# Altium footprint library Headers.PcbLib: 34 footprints (part 2 of 3)
Each footprint in its own frame and in the unit in brackets; x right, y up, seen from the top. Pads: shape width x height; smd on the part's side, far side on the other; paste and mask are expansions set on the pad; w line width, h text height; cw(c..) or ccw(c..) is an arc to the next point about the centre after c.
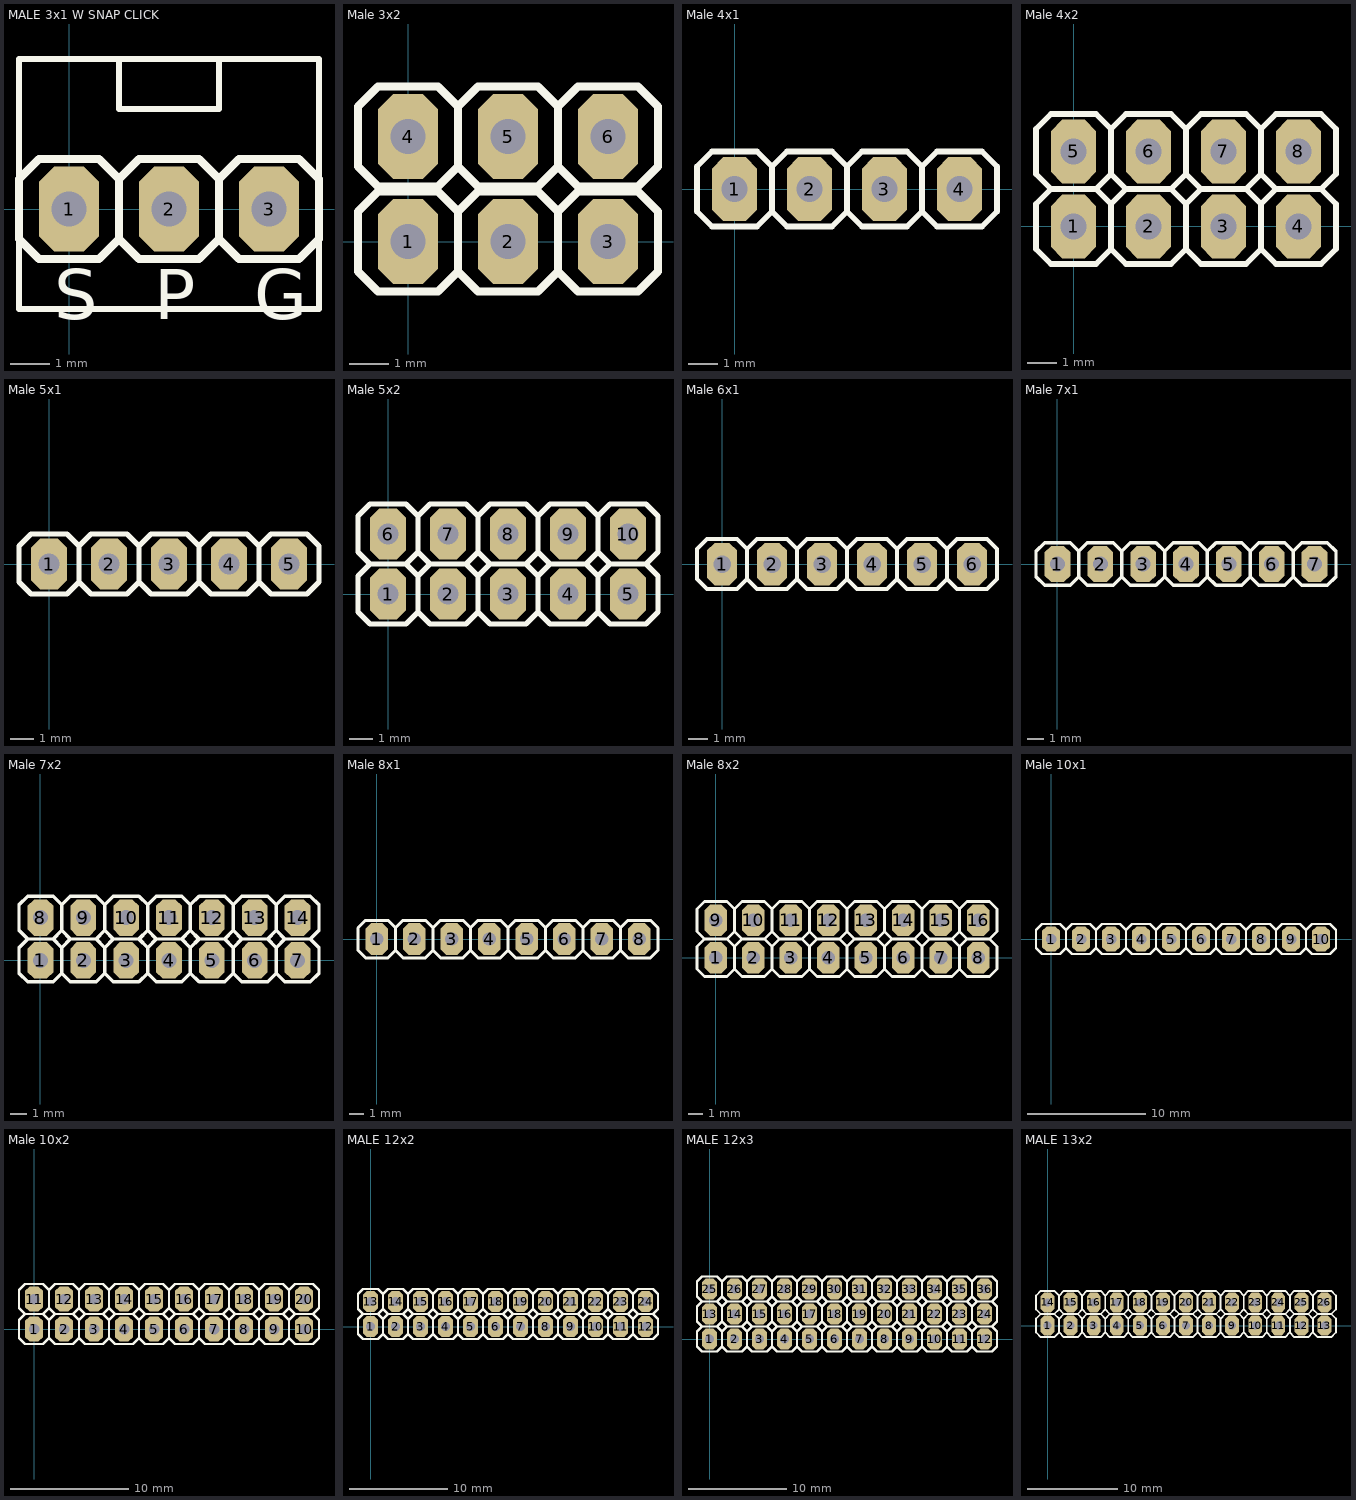
[diagram p1: the footprints below, top view; thin cyan lines are the x and y axes]

## MALE 3x1 W SNAP CLICK [mil]
pads (3):
  oct 60x85 hole 35: 1(0,0) 2(100,0) 3(200,0)
Top Overlay:
  lines w6: 50,150 50,100 150,100 150,150 ; -50,-100 250,-100 250,150 -50,150 -50,-100
  lines w8: -30,50 30,50 ; -30,50 -50,30 -50,-30 -30,-50 30,-50 50,-30 ; -30,50 30,50 ; 30,50 50,30 ; 50,-30 50,30 ; 50,-30 50,30 ; 50,-30 50,30 ; 50,-30 70,-50 130,-50 150,-30 ; 50,30 70,50 ; 70,50 130,50 ; 70,50 130,50 ; 130,50 150,30 ; 150,-30 150,30 ; 150,-30 150,30 ; 150,-30 150,30 ; 150,-30 170,-50 230,-50 250,-30 ; 150,30 170,50 ; 170,50 230,50 ; 170,50 230,50 ; 230,50 250,30 ; 250,-30 250,30 ; 250,-30 250,30
  text "S" at -15,-110 h50
  text "P" at 85,-110 h50
  text "G" at 185,-110 h50
3D body: height 460, standoff -120, extent -10,-10 10,10
3D body: height 100, standoff 0, extent -50.02,-50.02 50.02,50.02
3D body: height 460, standoff -120, extent 90,-10 110,10
3D body: height 100, standoff 0, extent 49.98,-50.02 150.02,50.02
3D body: height 460, standoff -120, extent 190,-10 210,10
3D body: height 100, standoff 0, extent 149.98,-50.02 250.02,50.02

## Male 3x2 [mil]
pads (6):
  oct 60x85 hole 35: 1(0,0) 2(100,0) 3(200,0) 4(0,105) 5(100,105) 6(200,105)
Top Overlay:
  lines w8: -30,50 30,50 ; -30,50 -50,30 -50,-30 -30,-50 30,-50 50,-30 ; -30,50 30,50 ; -30,155 30,155 ; -30,155 -50,135 -50,75 -30,55 30,55 50,75 ; -30,155 30,155 ; 30,50 50,30 ; 30,155 50,135 ; 50,-30 50,30 ; 50,-30 50,30 ; 50,-30 50,30 ; 50,-30 70,-50 130,-50 150,-30 ; 50,30 70,50 ; 50,75 50,135 ; 50,75 50,135 ; 50,75 50,135 ; 50,75 70,55 130,55 150,75 ; 50,135 70,155 ; 70,50 130,50 ; 70,50 130,50 ; 70,155 130,155 ; 70,155 130,155 ; 130,50 150,30 ; 130,155 150,135 ; 150,-30 150,30 ; 150,-30 150,30 ; 150,-30 150,30 ; 150,-30 170,-50 230,-50 250,-30 ; 150,30 170,50 ; 150,75 150,135 ; 150,75 150,135 ; 150,75 150,135 ; 150,75 170,55 230,55 250,75 ; 150,135 170,155 ; 170,50 230,50 ; 170,50 230,50 ; 170,155 230,155 ; 170,155 230,155 ; 230,50 250,30 ; 230,155 250,135 ; 250,-30 250,30 ; 250,-30 250,30 ; 250,75 250,135 ; 250,75 250,135
3D body: height 460, standoff -120, extent -10,-10 10,10
3D body: height 100, standoff 0, extent -50.02,-50.02 50.02,50.02
3D body: height 460, standoff -120, extent 90,-10 110,10
3D body: height 100, standoff 0, extent 49.98,-50.02 150.02,50.02
3D body: height 460, standoff -120, extent 190,-10 210,10
3D body: height 100, standoff 0, extent 149.98,-50.02 250.02,50.02
3D body: height 460, standoff -120, extent -10,95 10,115
3D body: height 100, standoff 0, extent -50.02,54.98 50.02,155.02
3D body: height 460, standoff -120, extent 90,95 110,115
3D body: height 100, standoff 0, extent 49.98,54.98 150.02,155.02
3D body: height 460, standoff -120, extent 190,95 210,115
3D body: height 100, standoff 0, extent 149.98,54.98 250.02,155.02

## Male 4x1 [mil]
pads (4):
  oct 60x85 hole 35: 1(0,0) 2(100,0) 3(200,0) 4(300,0)
Top Overlay:
  lines w8: -30,50 30,50 ; -30,50 -50,30 -50,-30 -30,-50 30,-50 50,-30 ; -30,50 30,50 ; 30,50 50,30 ; 50,-30 50,30 ; 50,-30 50,30 ; 50,-30 50,30 ; 50,-30 70,-50 130,-50 150,-30 ; 50,30 70,50 ; 70,50 130,50 ; 70,50 130,50 ; 130,50 150,30 ; 150,-30 150,30 ; 150,-30 150,30 ; 150,-30 150,30 ; 150,-30 170,-50 230,-50 250,-30 ; 150,30 170,50 ; 170,50 230,50 ; 170,50 230,50 ; 230,50 250,30 ; 250,-30 250,30 ; 250,-30 250,30 ; 250,-30 250,30 ; 250,-30 270,-50 330,-50 350,-30 ; 250,30 270,50 ; 270,50 330,50 ; 270,50 330,50 ; 330,50 350,30 ; 350,-30 350,30 ; 350,-30 350,30
3D body: height 460, standoff -120, extent -10,-10 10,10
3D body: height 100, standoff 0, extent -50.02,-50.02 50.02,50.02
3D body: height 460, standoff -120, extent 90,-10 110,10
3D body: height 100, standoff 0, extent 49.98,-50.02 150.02,50.02
3D body: height 460, standoff -120, extent 190,-10 210,10
3D body: height 100, standoff 0, extent 149.98,-50.02 250.02,50.02
3D body: height 460, standoff -120, extent 290,-10 310,10
3D body: height 100, standoff 0, extent 249.98,-50.02 350.02,50.02

## Male 4x2 [mil]
pads (8):
  oct 60x85 hole 35: 1(0,0) 2(100,0) 3(200,0) 4(300,0) 5(0,100) 6(100,100) 7(200,100) 8(300,100)
Top Overlay:
  lines w8: -30,50 -50,70 -50,130 -30,150 ; -30,50 30,50 ; -30,50 30,50 ; -30,50 -50,30 -50,-30 -30,-50 30,-50 50,-30 ; -30,50 30,50 ; -30,150 30,150 ; -30,150 30,150 ; 30,50 50,70 ; 30,50 50,30 ; 30,150 50,130 ; 50,-30 70,-50 130,-50 150,-30 ; 50,-30 50,30 ; 50,-30 50,30 ; 50,-30 50,30 ; 50,30 70,50 ; 50,70 70,50 ; 50,70 50,130 ; 50,70 50,130 ; 50,70 50,130 ; 50,130 70,150 ; 70,50 130,50 ; 70,50 130,50 ; 70,50 130,50 ; 70,150 130,150 ; 70,150 130,150 ; 130,50 150,70 ; 130,50 150,30 ; 130,150 150,130 ; 150,-30 170,-50 230,-50 250,-30 ; 150,-30 150,30 ; 150,-30 150,30 ; 150,-30 150,30 ; 150,30 170,50 ; 150,70 170,50 ; 150,70 150,130 ; 150,70 150,130 ; 150,70 150,130 ; 150,130 170,150 ; 170,50 230,50 ; 170,50 230,50 ; 170,50 230,50 ; 170,150 230,150 ; 170,150 230,150 ; 230,50 250,70 ; 230,50 250,30 ; 230,150 250,130 ; 250,-30 270,-50 330,-50 350,-30 ; 250,-30 250,30 ; 250,-30 250,30 ; 250,-30 250,30 ; 250,30 270,50 ; 250,70 270,50 ; 250,70 250,130 ; 250,70 250,130 ; 250,70 250,130 ; 250,130 270,150 ; 270,50 330,50 ; 270,50 330,50 ; 270,50 330,50 ; 270,150 330,150 ; 270,150 330,150 ; 330,50 350,70 ; 330,50 350,30 ; 330,150 350,130 ; 350,-30 350,30 ; 350,-30 350,30 ; 350,70 350,130 ; 350,70 350,130
3D body: height 100, standoff 0, extent 249.98,49.98 350.02,150.02
3D body: height 460, standoff -120, extent 290,90 310,110
3D body: height 100, standoff 0, extent 149.98,49.98 250.02,150.02
3D body: height 460, standoff -120, extent 190,90 210,110
3D body: height 100, standoff 0, extent 249.98,-50.02 350.02,50.02
3D body: height 460, standoff -120, extent 290,-10 310,10
3D body: height 100, standoff 0, extent 149.98,-50.02 250.02,50.02
3D body: height 460, standoff -120, extent 190,-10 210,10
3D body: height 100, standoff 0, extent 49.98,49.98 150.02,150.02
3D body: height 460, standoff -120, extent 90,90 110,110
3D body: height 100, standoff 0, extent -50.02,49.98 50.02,150.02
3D body: height 460, standoff -120, extent -10,90 10,110
3D body: height 100, standoff 0, extent 49.98,-50.02 150.02,50.02
3D body: height 460, standoff -120, extent 90,-10 110,10
3D body: height 100, standoff 0, extent -50.02,-50.02 50.02,50.02
3D body: height 460, standoff -120, extent -10,-10 10,10

## Male 5x1 [mil]
pads (5):
  oct 60x85 hole 35: 1(0,0) 2(100,0) 3(200,0) 4(300,0) 5(400,0)
Top Overlay:
  lines w8: -30,50 30,50 ; -30,50 -50,30 -50,-30 -30,-50 30,-50 50,-30 ; -30,50 30,50 ; 30,50 50,30 ; 50,-30 70,-50 130,-50 150,-30 ; 50,-30 50,30 ; 50,-30 50,30 ; 50,-30 50,30 ; 50,30 70,50 ; 70,50 130,50 ; 70,50 130,50 ; 130,50 150,30 ; 150,-30 170,-50 230,-50 250,-30 ; 150,-30 150,30 ; 150,-30 150,30 ; 150,-30 150,30 ; 150,30 170,50 ; 170,50 230,50 ; 170,50 230,50 ; 230,50 250,30 ; 250,-30 270,-50 330,-50 350,-30 ; 250,-30 250,30 ; 250,-30 250,30 ; 250,-30 250,30 ; 250,30 270,50 ; 270,50 330,50 ; 270,50 330,50 ; 330,50 350,30 ; 350,-30 370,-50 430,-50 450,-30 ; 350,-30 350,30 ; 350,-30 350,30 ; 350,-30 350,30 ; 350,30 370,50 ; 370,50 430,50 ; 370,50 430,50 ; 430,50 450,30 ; 450,-30 450,30 ; 450,-30 450,30
3D body: height 100, standoff 0, extent 349.98,-50.02 450.02,50.02
3D body: height 460, standoff -120, extent 390,-10 410,10
3D body: height 100, standoff 0, extent 249.98,-50.02 350.02,50.02
3D body: height 460, standoff -120, extent 290,-10 310,10
3D body: height 100, standoff 0, extent 149.98,-50.02 250.02,50.02
3D body: height 460, standoff -120, extent 190,-10 210,10
3D body: height 100, standoff 0, extent 49.98,-50.02 150.02,50.02
3D body: height 460, standoff -120, extent 90,-10 110,10
3D body: height 100, standoff 0, extent -50.02,-50.02 50.02,50.02
3D body: height 460, standoff -120, extent -10,-10 10,10

## Male 5x2 [mil]
pads (10):
  oct 60x85 hole 35: 1(0,0) 2(100,0) 3(200,0) 4(300,0) 5(400,0) 6(0,100) 7(100,100) 8(200,100) 9(300,100) 10(400,100)
Top Overlay:
  lines w8: -30,50 30,50 ; -30,50 -50,30 -50,-30 -30,-50 30,-50 50,-30 ; -30,50 30,50 ; -30,50 30,50 ; -30,50 -50,70 -50,130 -30,150 ; -30,150 30,150 ; -30,150 30,150 ; 30,50 50,30 ; 30,50 50,70 ; 30,150 50,130 ; 50,-30 50,30 ; 50,-30 50,30 ; 50,-30 50,30 ; 50,-30 70,-50 130,-50 150,-30 ; 50,30 70,50 ; 50,70 50,130 ; 50,70 50,130 ; 50,70 50,130 ; 50,70 70,50 ; 50,130 70,150 ; 70,50 130,50 ; 70,50 130,50 ; 70,50 130,50 ; 70,150 130,150 ; 70,150 130,150 ; 130,50 150,30 ; 130,50 150,70 ; 130,150 150,130 ; 150,-30 150,30 ; 150,-30 150,30 ; 150,-30 150,30 ; 150,-30 170,-50 230,-50 250,-30 ; 150,30 170,50 ; 150,70 150,130 ; 150,70 150,130 ; 150,70 150,130 ; 150,70 170,50 ; 150,130 170,150 ; 170,50 230,50 ; 170,50 230,50 ; 170,50 230,50 ; 170,150 230,150 ; 170,150 230,150 ; 230,50 250,30 ; 230,50 250,70 ; 230,150 250,130 ; 250,-30 250,30 ; 250,-30 250,30 ; 250,-30 250,30 ; 250,-30 270,-50 330,-50 350,-30 ; 250,30 270,50 ; 250,70 250,130 ; 250,70 250,130 ; 250,70 250,130 ; 250,70 270,50 ; 250,130 270,150 ; 270,50 330,50 ; 270,50 330,50 ; 270,50 330,50 ; 270,150 330,150 ; 270,150 330,150 ; 330,50 350,30 ; 330,50 350,70 ; 330,150 350,130 ; 350,-30 350,30 ; 350,-30 350,30 ; 350,-30 350,30 ; 350,-30 370,-50 430,-50 450,-30 ; 350,30 370,50 ; 350,70 350,130 ; 350,70 350,130 ; 350,70 350,130 ; 350,70 370,50 ; 350,130 370,150 ; 370,50 430,50 ; 370,50 430,50 ; 370,50 430,50 ; 370,150 430,150 ; 370,150 430,150 ; 430,50 450,30 ; 430,50 450,70 ; 430,150 450,130 ; 450,-30 450,30 ; 450,-30 450,30 ; 450,70 450,130 ; 450,70 450,130
3D body: height 460, standoff -120, extent -10,-10 10,10
3D body: height 100, standoff 0, extent -50.02,-50.02 50.02,50.02
3D body: height 460, standoff -120, extent 90,-10 110,10
3D body: height 100, standoff 0, extent 49.98,-50.02 150.02,50.02
3D body: height 460, standoff -120, extent 190,-10 210,10
3D body: height 100, standoff 0, extent 149.98,-50.02 250.02,50.02
3D body: height 460, standoff -120, extent 290,-10 310,10
3D body: height 100, standoff 0, extent 249.98,-50.02 350.02,50.02
3D body: height 460, standoff -120, extent 390,-10 410,10
3D body: height 100, standoff 0, extent 349.98,-50.02 450.02,50.02
3D body: height 460, standoff -120, extent -10,90 10,110
3D body: height 100, standoff 0, extent -50.02,49.98 50.02,150.02
3D body: height 460, standoff -120, extent 90,90 110,110
3D body: height 100, standoff 0, extent 49.98,49.98 150.02,150.02
3D body: height 460, standoff -120, extent 190,90 210,110
3D body: height 100, standoff 0, extent 149.98,49.98 250.02,150.02
3D body: height 460, standoff -120, extent 290,90 310,110
3D body: height 100, standoff 0, extent 249.98,49.98 350.02,150.02
3D body: height 460, standoff -120, extent 390,90 410,110
3D body: height 100, standoff 0, extent 349.98,49.98 450.02,150.02

## Male 6x1 [mil]
pads (6):
  oct 60x85 hole 35: 1(0,0) 2(100,0) 3(200,0) 4(300,0) 5(400,0) 6(500,0)
Top Overlay:
  lines w8: -30,50 30,50 ; -30,50 -50,30 -50,-30 -30,-50 30,-50 50,-30 ; -30,50 30,50 ; 30,50 50,30 ; 50,-30 50,30 ; 50,-30 50,30 ; 50,-30 50,30 ; 50,-30 70,-50 130,-50 150,-30 ; 50,30 70,50 ; 70,50 130,50 ; 70,50 130,50 ; 130,50 150,30 ; 150,-30 150,30 ; 150,-30 150,30 ; 150,-30 150,30 ; 150,-30 170,-50 230,-50 250,-30 ; 150,30 170,50 ; 170,50 230,50 ; 170,50 230,50 ; 230,50 250,30 ; 250,-30 250,30 ; 250,-30 250,30 ; 250,-30 250,30 ; 250,-30 270,-50 330,-50 350,-30 ; 250,30 270,50 ; 270,50 330,50 ; 270,50 330,50 ; 330,50 350,30 ; 350,-30 350,30 ; 350,-30 350,30 ; 350,-30 350,30 ; 350,-30 370,-50 430,-50 450,-30 ; 350,30 370,50 ; 370,50 430,50 ; 370,50 430,50 ; 430,50 450,30 ; 450,-30 450,30 ; 450,-30 450,30 ; 450,-30 450,30 ; 450,-30 470,-50 530,-50 550,-30 ; 450,30 470,50 ; 470,50 530,50 ; 470,50 530,50 ; 530,50 550,30 ; 550,-30 550,30 ; 550,-30 550,30
3D body: height 460, standoff -120, extent -10,-10 10,10
3D body: height 100, standoff 0, extent -50.02,-50.02 50.02,50.02
3D body: height 460, standoff -120, extent 90,-10 110,10
3D body: height 100, standoff 0, extent 49.98,-50.02 150.02,50.02
3D body: height 460, standoff -120, extent 190,-10 210,10
3D body: height 100, standoff 0, extent 149.98,-50.02 250.02,50.02
3D body: height 460, standoff -120, extent 290,-10 310,10
3D body: height 100, standoff 0, extent 249.98,-50.02 350.02,50.02
3D body: height 460, standoff -120, extent 390,-10 410,10
3D body: height 100, standoff 0, extent 349.98,-50.02 450.02,50.02
3D body: height 460, standoff -120, extent 490,-10 510,10
3D body: height 100, standoff 0, extent 449.98,-50.02 550.02,50.02

## Male 7x1 [mil]
pads (7):
  oct 60x85 hole 35: 1(0,0) 2(100,0) 3(200,0) 4(300,0) 5(400,0) 6(500,0) 7(600,0)
Top Overlay:
  lines w8: -30,50 30,50 ; -30,50 -50,30 -50,-30 -30,-50 30,-50 50,-30 ; -30,50 30,50 ; 30,50 50,30 ; 50,-30 50,30 ; 50,-30 50,30 ; 50,-30 50,30 ; 50,-30 70,-50 130,-50 150,-30 ; 50,30 70,50 ; 70,50 130,50 ; 70,50 130,50 ; 130,50 150,30 ; 150,-30 150,30 ; 150,-30 150,30 ; 150,-30 150,30 ; 150,-30 170,-50 230,-50 250,-30 ; 150,30 170,50 ; 170,50 230,50 ; 170,50 230,50 ; 230,50 250,30 ; 250,-30 250,30 ; 250,-30 250,30 ; 250,-30 250,30 ; 250,-30 270,-50 330,-50 350,-30 ; 250,30 270,50 ; 270,50 330,50 ; 270,50 330,50 ; 330,50 350,30 ; 350,-30 350,30 ; 350,-30 350,30 ; 350,-30 350,30 ; 350,-30 370,-50 430,-50 450,-30 ; 350,30 370,50 ; 370,50 430,50 ; 370,50 430,50 ; 430,50 450,30 ; 450,-30 450,30 ; 450,-30 450,30 ; 450,-30 450,30 ; 450,-30 470,-50 530,-50 550,-30 ; 450,30 470,50 ; 470,50 530,50 ; 470,50 530,50 ; 530,50 550,30 ; 550,-30 550,30 ; 550,-30 550,30 ; 550,-30 550,30 ; 550,-30 570,-50 630,-50 650,-30 ; 550,30 570,50 ; 570,50 630,50 ; 570,50 630,50 ; 630,50 650,30 ; 650,-30 650,30 ; 650,-30 650,30
3D body: height 460, standoff -120, extent -10,-10 10,10
3D body: height 100, standoff 0, extent -50.02,-50.02 50.02,50.02
3D body: height 460, standoff -120, extent 90,-10 110,10
3D body: height 100, standoff 0, extent 49.98,-50.02 150.02,50.02
3D body: height 460, standoff -120, extent 190,-10 210,10
3D body: height 100, standoff 0, extent 149.98,-50.02 250.02,50.02
3D body: height 460, standoff -120, extent 290,-10 310,10
3D body: height 100, standoff 0, extent 249.98,-50.02 350.02,50.02
3D body: height 460, standoff -120, extent 390,-10 410,10
3D body: height 100, standoff 0, extent 349.98,-50.02 450.02,50.02
3D body: height 460, standoff -120, extent 490,-10 510,10
3D body: height 100, standoff 0, extent 449.98,-50.02 550.02,50.02
3D body: height 460, standoff -120, extent 590,-10 610,10
3D body: height 100, standoff 0, extent 549.98,-50.02 650.02,50.02

## Male 7x2 [mil]
pads (14):
  oct 60x85 hole 35: 1(0,0) 2(100,0) 3(200,0) 4(300,0) 5(400,0) 6(500,0) 7(600,0) 8(0,100) 9(100,100) 10(200,100) 11(300,100) 12(400,100) 13(500,100) 14(600,100)
Top Overlay:
  lines w8: -30,50 -50,70 -50,130 -30,150 ; -30,50 30,50 ; -30,50 30,50 ; -30,50 -50,30 -50,-30 -30,-50 30,-50 50,-30 ; -30,50 30,50 ; -30,150 30,150 ; -30,150 30,150 ; 30,50 50,70 ; 30,50 50,30 ; 30,150 50,130 ; 50,-30 70,-50 130,-50 150,-30 ; 50,-30 50,30 ; 50,-30 50,30 ; 50,-30 50,30 ; 50,30 70,50 ; 50,70 70,50 ; 50,70 50,130 ; 50,70 50,130 ; 50,70 50,130 ; 50,130 70,150 ; 70,50 130,50 ; 70,50 130,50 ; 70,50 130,50 ; 70,150 130,150 ; 70,150 130,150 ; 130,50 150,70 ; 130,50 150,30 ; 130,150 150,130 ; 150,-30 170,-50 230,-50 250,-30 ; 150,-30 150,30 ; 150,-30 150,30 ; 150,-30 150,30 ; 150,30 170,50 ; 150,70 170,50 ; 150,70 150,130 ; 150,70 150,130 ; 150,70 150,130 ; 150,130 170,150 ; 170,50 230,50 ; 170,50 230,50 ; 170,50 230,50 ; 170,150 230,150 ; 170,150 230,150 ; 230,50 250,70 ; 230,50 250,30 ; 230,150 250,130 ; 250,-30 270,-50 330,-50 350,-30 ; 250,-30 250,30 ; 250,-30 250,30 ; 250,-30 250,30 ; 250,30 270,50 ; 250,70 270,50 ; 250,70 250,130 ; 250,70 250,130 ; 250,70 250,130 ; 250,130 270,150 ; 270,50 330,50 ; 270,50 330,50 ; 270,50 330,50 ; 270,150 330,150 ; 270,150 330,150 ; 330,50 350,70 ; 330,50 350,30 ; 330,150 350,130 ; 350,-30 370,-50 430,-50 450,-30 ; 350,-30 350,30 ; 350,-30 350,30 ; 350,-30 350,30 ; 350,30 370,50 ; 350,70 370,50 ; 350,70 350,130 ; 350,70 350,130 ; 350,70 350,130 ; 350,130 370,150 ; 370,50 430,50 ; 370,50 430,50 ; 370,50 430,50 ; 370,150 430,150 ; 370,150 430,150 ; 430,50 450,70 ; 430,50 450,30 ; 430,150 450,130 ; 450,-30 470,-50 530,-50 550,-30 ; 450,-30 450,30 ; 450,-30 450,30 ; 450,-30 450,30 ; 450,30 470,50 ; 450,70 470,50 ; 450,70 450,130 ; 450,70 450,130 ; 450,70 450,130 ; 450,130 470,150 ; 470,50 530,50 ; 470,50 530,50 ; 470,50 530,50 ; 470,150 530,150 ; 470,150 530,150 ; 530,50 550,70 ; 530,50 550,30 ; 530,150 550,130 ; 550,-30 570,-50 630,-50 650,-30 ; 550,-30 550,30 ; 550,-30 550,30 ; 550,-30 550,30 ; 550,30 570,50 ; 550,70 570,50 ; 550,70 550,130 ; 550,70 550,130 ; 550,70 550,130 ; 550,130 570,150 ; 570,50 630,50 ; 570,50 630,50 ; 570,50 630,50 ; 570,150 630,150 ; 570,150 630,150 ; 630,50 650,70 ; 630,50 650,30 ; 630,150 650,130 ; 650,-30 650,30 ; 650,-30 650,30 ; 650,70 650,130 ; 650,70 650,130
3D body: height 100, standoff 0, extent 549.98,49.98 650.02,150.02
3D body: height 460, standoff -120, extent 590,90 610,110
3D body: height 100, standoff 0, extent 449.98,49.98 550.02,150.02
3D body: height 460, standoff -120, extent 490,90 510,110
3D body: height 100, standoff 0, extent 349.98,49.98 450.02,150.02
3D body: height 460, standoff -120, extent 390,90 410,110
3D body: height 100, standoff 0, extent 249.98,49.98 350.02,150.02
3D body: height 460, standoff -120, extent 290,90 310,110
3D body: height 100, standoff 0, extent 149.98,49.98 250.02,150.02
3D body: height 460, standoff -120, extent 190,90 210,110
3D body: height 100, standoff 0, extent 49.98,49.98 150.02,150.02
3D body: height 460, standoff -120, extent 90,90 110,110
3D body: height 100, standoff 0, extent -50.02,49.98 50.02,150.02
3D body: height 460, standoff -120, extent -10,90 10,110
3D body: height 100, standoff 0, extent 549.98,-50.02 650.02,50.02
3D body: height 460, standoff -120, extent 590,-10 610,10
3D body: height 100, standoff 0, extent 449.98,-50.02 550.02,50.02
3D body: height 460, standoff -120, extent 490,-10 510,10
3D body: height 100, standoff 0, extent 349.98,-50.02 450.02,50.02
3D body: height 460, standoff -120, extent 390,-10 410,10
3D body: height 100, standoff 0, extent 249.98,-50.02 350.02,50.02
3D body: height 460, standoff -120, extent 290,-10 310,10
3D body: height 100, standoff 0, extent 149.98,-50.02 250.02,50.02
3D body: height 460, standoff -120, extent 190,-10 210,10
3D body: height 100, standoff 0, extent 49.98,-50.02 150.02,50.02
3D body: height 460, standoff -120, extent 90,-10 110,10
3D body: height 100, standoff 0, extent -50.02,-50.02 50.02,50.02
3D body: height 460, standoff -120, extent -10,-10 10,10

## Male 8x1 [mil]
pads (8):
  oct 60x85 hole 35: 1(0,0) 2(100,0) 3(200,0) 4(300,0) 5(400,0) 6(500,0) 7(600,0) 8(700,0)
Top Overlay:
  lines w8: -30,50 30,50 ; -30,50 -50,30 -50,-30 -30,-50 30,-50 50,-30 ; -30,50 30,50 ; 30,50 50,30 ; 50,-30 50,30 ; 50,-30 50,30 ; 50,-30 50,30 ; 50,-30 70,-50 130,-50 150,-30 ; 50,30 70,50 ; 70,50 130,50 ; 70,50 130,50 ; 130,50 150,30 ; 150,-30 150,30 ; 150,-30 150,30 ; 150,-30 150,30 ; 150,-30 170,-50 230,-50 250,-30 ; 150,30 170,50 ; 170,50 230,50 ; 170,50 230,50 ; 230,50 250,30 ; 250,-30 250,30 ; 250,-30 250,30 ; 250,-30 250,30 ; 250,-30 270,-50 330,-50 350,-30 ; 250,30 270,50 ; 270,50 330,50 ; 270,50 330,50 ; 330,50 350,30 ; 350,-30 350,30 ; 350,-30 350,30 ; 350,-30 350,30 ; 350,-30 370,-50 430,-50 450,-30 ; 350,30 370,50 ; 370,50 430,50 ; 370,50 430,50 ; 430,50 450,30 ; 450,-30 450,30 ; 450,-30 450,30 ; 450,-30 450,30 ; 450,-30 470,-50 530,-50 550,-30 ; 450,30 470,50 ; 470,50 530,50 ; 470,50 530,50 ; 530,50 550,30 ; 550,-30 550,30 ; 550,-30 550,30 ; 550,-30 550,30 ; 550,-30 570,-50 630,-50 650,-30 ; 550,30 570,50 ; 570,50 630,50 ; 570,50 630,50 ; 630,50 650,30 ; 650,-30 650,30 ; 650,-30 650,30 ; 650,-30 650,30 ; 650,-30 670,-50 730,-50 750,-30 ; 650,30 670,50 ; 670,50 730,50 ; 670,50 730,50 ; 730,50 750,30 ; 750,-30 750,30 ; 750,-30 750,30
3D body: height 460, standoff -120, extent -10,-10 10,10
3D body: height 100, standoff 0, extent -50.02,-50.02 50.02,50.02
3D body: height 460, standoff -120, extent 90,-10 110,10
3D body: height 100, standoff 0, extent 49.98,-50.02 150.02,50.02
3D body: height 460, standoff -120, extent 190,-10 210,10
3D body: height 100, standoff 0, extent 149.98,-50.02 250.02,50.02
3D body: height 460, standoff -120, extent 290,-10 310,10
3D body: height 100, standoff 0, extent 249.98,-50.02 350.02,50.02
3D body: height 460, standoff -120, extent 390,-10 410,10
3D body: height 100, standoff 0, extent 349.98,-50.02 450.02,50.02
3D body: height 460, standoff -120, extent 490,-10 510,10
3D body: height 100, standoff 0, extent 449.98,-50.02 550.02,50.02
3D body: height 460, standoff -120, extent 590,-10 610,10
3D body: height 100, standoff 0, extent 549.98,-50.02 650.02,50.02
3D body: height 460, standoff -120, extent 690,-10 710,10
3D body: height 100, standoff 0, extent 649.98,-50.02 750.02,50.02

## Male 8x2 [mil]
pads (16):
  oct 60x85 hole 35: 1(0,0) 2(100,0) 3(200,0) 4(300,0) 5(400,0) 6(500,0) 7(600,0) 8(700,0) 9(0,100) 10(100,100) 11(200,100) 12(300,100) 13(400,100) 14(500,100) 15(600,100) 16(700,100)
Top Overlay:
  drawing of 160 lines, arcs and shapes, not listed
3D body: height 100, standoff 0, extent 649.98,49.98 750.02,150.02
3D body: height 460, standoff -120, extent 690,90 710,110
3D body: height 100, standoff 0, extent 549.98,49.98 650.02,150.02
3D body: height 460, standoff -120, extent 590,90 610,110
3D body: height 100, standoff 0, extent 449.98,49.98 550.02,150.02
3D body: height 460, standoff -120, extent 490,90 510,110
3D body: height 100, standoff 0, extent 349.98,49.98 450.02,150.02
3D body: height 460, standoff -120, extent 390,90 410,110
3D body: height 100, standoff 0, extent 249.98,49.98 350.02,150.02
3D body: height 460, standoff -120, extent 290,90 310,110
3D body: height 100, standoff 0, extent 149.98,49.98 250.02,150.02
3D body: height 460, standoff -120, extent 190,90 210,110
3D body: height 100, standoff 0, extent 49.98,49.98 150.02,150.02
3D body: height 460, standoff -120, extent 90,90 110,110
3D body: height 100, standoff 0, extent -50.02,49.98 50.02,150.02
3D body: height 460, standoff -120, extent -10,90 10,110
3D body: height 100, standoff 0, extent 649.98,-50.02 750.02,50.02
3D body: height 460, standoff -120, extent 690,-10 710,10
3D body: height 100, standoff 0, extent 549.98,-50.02 650.02,50.02
3D body: height 460, standoff -120, extent 590,-10 610,10
3D body: height 100, standoff 0, extent 449.98,-50.02 550.02,50.02
3D body: height 460, standoff -120, extent 490,-10 510,10
3D body: height 100, standoff 0, extent 349.98,-50.02 450.02,50.02
3D body: height 460, standoff -120, extent 390,-10 410,10
3D body: height 100, standoff 0, extent 249.98,-50.02 350.02,50.02
3D body: height 460, standoff -120, extent 290,-10 310,10
3D body: height 100, standoff 0, extent 149.98,-50.02 250.02,50.02
3D body: height 460, standoff -120, extent 190,-10 210,10
3D body: height 100, standoff 0, extent 49.98,-50.02 150.02,50.02
3D body: height 460, standoff -120, extent 90,-10 110,10
3D body: height 100, standoff 0, extent -50.02,-50.02 50.02,50.02
3D body: height 460, standoff -120, extent -10,-10 10,10

## Male 10x1 [mil]
pads (10):
  oct 60x85 hole 35: 1(0,0) 2(100,0) 3(200,0) 4(300,0) 5(400,0) 6(500,0) 7(600,0) 8(700,0) 9(800,0) 10(900,0)
Top Overlay:
  lines w8: -30,50 30,50 ; -30,50 -50,30 -50,-30 -30,-50 30,-50 50,-30 ; -30,50 30,50 ; 30,50 50,30 ; 50,-30 50,30 ; 50,-30 50,30 ; 50,-30 50,30 ; 50,-30 70,-50 130,-50 150,-30 ; 50,30 70,50 ; 70,50 130,50 ; 70,50 130,50 ; 130,50 150,30 ; 150,-30 150,30 ; 150,-30 150,30 ; 150,-30 150,30 ; 150,-30 170,-50 230,-50 250,-30 ; 150,30 170,50 ; 170,50 230,50 ; 170,50 230,50 ; 230,50 250,30 ; 250,-30 250,30 ; 250,-30 250,30 ; 250,-30 250,30 ; 250,-30 270,-50 330,-50 350,-30 ; 250,30 270,50 ; 270,50 330,50 ; 270,50 330,50 ; 330,50 350,30 ; 350,-30 350,30 ; 350,-30 350,30 ; 350,-30 350,30 ; 350,-30 370,-50 430,-50 450,-30 ; 350,30 370,50 ; 370,50 430,50 ; 370,50 430,50 ; 430,50 450,30 ; 450,-30 450,30 ; 450,-30 450,30 ; 450,-30 450,30 ; 450,-30 470,-50 530,-50 550,-30 ; 450,30 470,50 ; 470,50 530,50 ; 470,50 530,50 ; 530,50 550,30 ; 550,-30 550,30 ; 550,-30 550,30 ; 550,-30 550,30 ; 550,-30 570,-50 630,-50 650,-30 ; 550,30 570,50 ; 570,50 630,50 ; 570,50 630,50 ; 630,50 650,30 ; 650,-30 650,30 ; 650,-30 650,30 ; 650,-30 650,30 ; 650,-30 670,-50 730,-50 750,-30 ; 650,30 670,50 ; 670,50 730,50 ; 670,50 730,50 ; 730,50 750,30 ; 750,-30 750,30 ; 750,-30 750,30 ; 750,-30 750,30 ; 750,-30 770,-50 830,-50 850,-30 ; 750,30 770,50 ; 770,50 830,50 ; 770,50 830,50 ; 830,50 850,30 ; 850,-30 850,30 ; 850,-30 850,30 ; 850,-30 850,30 ; 850,-30 870,-50 930,-50 950,-30 ; 850,30 870,50 ; 870,50 930,50 ; 870,50 930,50 ; 930,50 950,30 ; 950,-30 950,30 ; 950,-30 950,30
3D body: height 460, standoff -120, extent -10,-10 10,10
3D body: height 100, standoff 0, extent -50.02,-50.02 50.02,50.02
3D body: height 460, standoff -120, extent 90,-10 110,10
3D body: height 100, standoff 0, extent 49.98,-50.02 150.02,50.02
3D body: height 460, standoff -120, extent 190,-10 210,10
3D body: height 100, standoff 0, extent 149.98,-50.02 250.02,50.02
3D body: height 460, standoff -120, extent 290,-10 310,10
3D body: height 100, standoff 0, extent 249.98,-50.02 350.02,50.02
3D body: height 460, standoff -120, extent 390,-10 410,10
3D body: height 100, standoff 0, extent 349.98,-50.02 450.02,50.02
3D body: height 460, standoff -120, extent 490,-10 510,10
3D body: height 100, standoff 0, extent 449.98,-50.02 550.02,50.02
3D body: height 460, standoff -120, extent 590,-10 610,10
3D body: height 100, standoff 0, extent 549.98,-50.02 650.02,50.02
3D body: height 460, standoff -120, extent 690,-10 710,10
3D body: height 100, standoff 0, extent 649.98,-50.02 750.02,50.02
3D body: height 460, standoff -120, extent 790,-10 810,10
3D body: height 100, standoff 0, extent 749.98,-50.02 850.02,50.02
3D body: height 460, standoff -120, extent 890,-10 910,10
3D body: height 100, standoff 0, extent 849.98,-50.02 950.02,50.02

## Male 10x2 [mil]
pads (20):
  oct 60x85 hole 35: 1(0,0) 2(100,0) 3(200,0) 4(300,0) 5(400,0) 6(500,0) 7(600,0) 8(700,0) 9(800,0) 10(900,0) 11(0,100) 12(100,100) 13(200,100) 14(300,100) 15(400,100) 16(500,100) 17(600,100) 18(700,100) 19(800,100) 20(900,100)
Top Overlay:
  drawing of 200 lines, arcs and shapes, not listed
3D body: height 460, standoff -120, extent -10,-10 10,10
3D body: height 100, standoff 0, extent -50.02,-50.02 50.02,50.02
3D body: height 460, standoff -120, extent 90,-10 110,10
3D body: height 100, standoff 0, extent 49.98,-50.02 150.02,50.02
3D body: height 460, standoff -120, extent 190,-10 210,10
3D body: height 100, standoff 0, extent 149.98,-50.02 250.02,50.02
3D body: height 460, standoff -120, extent 290,-10 310,10
3D body: height 100, standoff 0, extent 249.98,-50.02 350.02,50.02
3D body: height 460, standoff -120, extent 390,-10 410,10
3D body: height 100, standoff 0, extent 349.98,-50.02 450.02,50.02
3D body: height 460, standoff -120, extent 490,-10 510,10
3D body: height 100, standoff 0, extent 449.98,-50.02 550.02,50.02
3D body: height 460, standoff -120, extent 590,-10 610,10
3D body: height 100, standoff 0, extent 549.98,-50.02 650.02,50.02
3D body: height 460, standoff -120, extent 690,-10 710,10
3D body: height 100, standoff 0, extent 649.98,-50.02 750.02,50.02
3D body: height 460, standoff -120, extent 790,-10 810,10
3D body: height 100, standoff 0, extent 749.98,-50.02 850.02,50.02
3D body: height 460, standoff -120, extent 890,-10 910,10
3D body: height 100, standoff 0, extent 849.98,-50.02 950.02,50.02
3D body: height 460, standoff -120, extent -10,90 10,110
3D body: height 100, standoff 0, extent -50.02,49.98 50.02,150.02
3D body: height 460, standoff -120, extent 90,90 110,110
3D body: height 100, standoff 0, extent 49.98,49.98 150.02,150.02
3D body: height 460, standoff -120, extent 190,90 210,110
3D body: height 100, standoff 0, extent 149.98,49.98 250.02,150.02
3D body: height 460, standoff -120, extent 290,90 310,110
3D body: height 100, standoff 0, extent 249.98,49.98 350.02,150.02
3D body: height 460, standoff -120, extent 390,90 410,110
3D body: height 100, standoff 0, extent 349.98,49.98 450.02,150.02
3D body: height 460, standoff -120, extent 490,90 510,110
3D body: height 100, standoff 0, extent 449.98,49.98 550.02,150.02
3D body: height 460, standoff -120, extent 590,90 610,110
3D body: height 100, standoff 0, extent 549.98,49.98 650.02,150.02
3D body: height 460, standoff -120, extent 690,90 710,110
3D body: height 100, standoff 0, extent 649.98,49.98 750.02,150.02
3D body: height 460, standoff -120, extent 790,90 810,110
3D body: height 100, standoff 0, extent 749.98,49.98 850.02,150.02
3D body: height 460, standoff -120, extent 890,90 910,110
3D body: height 100, standoff 0, extent 849.98,49.98 950.02,150.02

## MALE 12x2 [mil]
pads (24):
  oct 60x85 hole 35: 1(0,0) 2(100,0) 3(200,0) 4(300,0) 5(400,0) 6(500,0) 7(600,0) 8(700,0) 9(800,0) 10(900,0) 11(1000,0) 12(1100,0) 13(0,100) 14(100,100) 15(200,100) 16(300,100) 17(400,100) 18(500,100) 19(600,100) 20(700,100) 21(800,100) 22(900,100) 23(1000,100) 24(1100,100)
Top Overlay:
  drawing of 262 lines, arcs and shapes, not listed
3D body: height 460, standoff -120, extent 990,90 1010,110
3D body: height 100, standoff 0, extent 949.98,49.98 1050.02,150.02
3D body: height 460, standoff -120, extent 1090,90 1110,110
3D body: height 460, standoff -120, extent 990,-10 1010,10
3D body: height 100, standoff 0, extent 949.98,-50.02 1050.02,50.02
3D body: height 460, standoff -120, extent 1090,-10 1110,10
3D body: height 100, standoff 0, extent 849.98,49.98 950.02,150.02
3D body: height 460, standoff -120, extent 890,90 910,110
3D body: height 100, standoff 0, extent 749.98,49.98 850.02,150.02
3D body: height 460, standoff -120, extent 790,90 810,110
3D body: height 100, standoff 0, extent 649.98,49.98 750.02,150.02
3D body: height 460, standoff -120, extent 690,90 710,110
3D body: height 100, standoff 0, extent 549.98,49.98 650.02,150.02
3D body: height 460, standoff -120, extent 590,90 610,110
3D body: height 100, standoff 0, extent 449.98,49.98 550.02,150.02
3D body: height 460, standoff -120, extent 490,90 510,110
3D body: height 100, standoff 0, extent 349.98,49.98 450.02,150.02
3D body: height 460, standoff -120, extent 390,90 410,110
3D body: height 100, standoff 0, extent 249.98,49.98 350.02,150.02
3D body: height 460, standoff -120, extent 290,90 310,110
3D body: height 100, standoff 0, extent 149.98,49.98 250.02,150.02
3D body: height 460, standoff -120, extent 190,90 210,110
3D body: height 100, standoff 0, extent 49.98,49.98 150.02,150.02
3D body: height 460, standoff -120, extent 90,90 110,110
3D body: height 100, standoff 0, extent -50.02,49.98 50.02,150.02
3D body: height 460, standoff -120, extent -10,90 10,110
3D body: height 100, standoff 0, extent 849.98,-50.02 950.02,50.02
3D body: height 460, standoff -120, extent 890,-10 910,10
3D body: height 100, standoff 0, extent 749.98,-50.02 850.02,50.02
3D body: height 460, standoff -120, extent 790,-10 810,10
3D body: height 100, standoff 0, extent 649.98,-50.02 750.02,50.02
3D body: height 460, standoff -120, extent 690,-10 710,10
3D body: height 100, standoff 0, extent 549.98,-50.02 650.02,50.02
3D body: height 460, standoff -120, extent 590,-10 610,10
3D body: height 100, standoff 0, extent 449.98,-50.02 550.02,50.02
3D body: height 460, standoff -120, extent 490,-10 510,10
3D body: height 100, standoff 0, extent 349.98,-50.02 450.02,50.02
3D body: height 460, standoff -120, extent 390,-10 410,10
3D body: height 100, standoff 0, extent 249.98,-50.02 350.02,50.02
3D body: height 460, standoff -120, extent 290,-10 310,10
3D body: height 100, standoff 0, extent 149.98,-50.02 250.02,50.02
3D body: height 460, standoff -120, extent 190,-10 210,10
3D body: height 100, standoff 0, extent 49.98,-50.02 150.02,50.02
3D body: height 460, standoff -120, extent 90,-10 110,10
3D body: height 100, standoff 0, extent -50.02,-50.02 50.02,50.02
3D body: height 460, standoff -120, extent -10,-10 10,10
3D body: height 100, standoff 0, extent 1049.98,-50.02 1150.02,50.02
3D body: height 100, standoff 0, extent 1049.98,49.98 1150.02,150.02

## MALE 12x3 [mil]
pads (36):
  oct 60x85 hole 35: 1(0,0) 2(100,0) 3(200,0) 4(300,0) 5(400,0) 6(500,0) 7(600,0) 8(700,0) 9(800,0) 10(900,0) 11(1000,0) 12(1100,0) 13(0,100) 14(100,100) 15(200,100) 16(300,100) 17(400,100) 18(500,100) 19(600,100) 20(700,100) 21(800,100) 22(900,100) 23(1000,100) 24(1100,100) 25(0,200) 26(100,200) 27(200,200) 28(300,200) 29(400,200) 30(500,200) 31(600,200) 32(700,200) 33(800,200) 34(900,200) 35(1000,200) 36(1100,200)
Top Overlay:
  drawing of 385 lines, arcs and shapes, not listed
3D body: height 460, standoff -120, extent -10,190 10,210
3D body: height 100, standoff 0, extent -50.02,149.98 50.02,250.02
3D body: height 460, standoff -120, extent 90,190 110,210
3D body: height 100, standoff 0, extent 49.98,149.98 150.02,250.02
3D body: height 460, standoff -120, extent 190,190 210,210
3D body: height 100, standoff 0, extent 149.98,149.98 250.02,250.02
3D body: height 460, standoff -120, extent 290,190 310,210
3D body: height 100, standoff 0, extent 249.98,149.98 350.02,250.02
3D body: height 460, standoff -120, extent 390,190 410,210
3D body: height 100, standoff 0, extent 349.98,149.98 450.02,250.02
3D body: height 460, standoff -120, extent 490,190 510,210
3D body: height 100, standoff 0, extent 449.98,149.98 550.02,250.02
3D body: height 460, standoff -120, extent 590,190 610,210
3D body: height 100, standoff 0, extent 549.98,149.98 650.02,250.02
3D body: height 460, standoff -120, extent 690,190 710,210
3D body: height 100, standoff 0, extent 649.98,149.98 750.02,250.02
3D body: height 460, standoff -120, extent 790,190 810,210
3D body: height 100, standoff 0, extent 749.98,149.98 850.02,250.02
3D body: height 460, standoff -120, extent 890,190 910,210
3D body: height 100, standoff 0, extent 849.98,149.98 950.02,250.02
3D body: height 460, standoff -120, extent 1090,190 1110,210
3D body: height 100, standoff 0, extent 949.98,149.98 1050.02,250.02
3D body: height 460, standoff -120, extent 990,190 1010,210
3D body: height 460, standoff -120, extent 990,90 1010,110
3D body: height 100, standoff 0, extent 949.98,49.98 1050.02,150.02
3D body: height 460, standoff -120, extent 1090,90 1110,110
3D body: height 460, standoff -120, extent 990,-10 1010,10
3D body: height 100, standoff 0, extent 949.98,-50.02 1050.02,50.02
3D body: height 460, standoff -120, extent 1090,-10 1110,10
3D body: height 100, standoff 0, extent 849.98,49.98 950.02,150.02
3D body: height 460, standoff -120, extent 890,90 910,110
3D body: height 100, standoff 0, extent 749.98,49.98 850.02,150.02
3D body: height 460, standoff -120, extent 790,90 810,110
3D body: height 100, standoff 0, extent 649.98,49.98 750.02,150.02
3D body: height 460, standoff -120, extent 690,90 710,110
3D body: height 100, standoff 0, extent 549.98,49.98 650.02,150.02
3D body: height 460, standoff -120, extent 590,90 610,110
3D body: height 100, standoff 0, extent 449.98,49.98 550.02,150.02
3D body: height 460, standoff -120, extent 490,90 510,110
3D body: height 100, standoff 0, extent 349.98,49.98 450.02,150.02
3D body: height 460, standoff -120, extent 390,90 410,110
3D body: height 100, standoff 0, extent 249.98,49.98 350.02,150.02
3D body: height 460, standoff -120, extent 290,90 310,110
3D body: height 100, standoff 0, extent 149.98,49.98 250.02,150.02
3D body: height 460, standoff -120, extent 190,90 210,110
3D body: height 100, standoff 0, extent 49.98,49.98 150.02,150.02
3D body: height 460, standoff -120, extent 90,90 110,110
3D body: height 100, standoff 0, extent -50.02,49.98 50.02,150.02
3D body: height 460, standoff -120, extent -10,90 10,110
3D body: height 100, standoff 0, extent 849.98,-50.02 950.02,50.02
3D body: height 460, standoff -120, extent 890,-10 910,10
3D body: height 100, standoff 0, extent 749.98,-50.02 850.02,50.02
3D body: height 460, standoff -120, extent 790,-10 810,10
3D body: height 100, standoff 0, extent 649.98,-50.02 750.02,50.02
3D body: height 460, standoff -120, extent 690,-10 710,10
3D body: height 100, standoff 0, extent 549.98,-50.02 650.02,50.02
3D body: height 460, standoff -120, extent 590,-10 610,10
3D body: height 100, standoff 0, extent 449.98,-50.02 550.02,50.02
3D body: height 460, standoff -120, extent 490,-10 510,10
3D body: height 100, standoff 0, extent 349.98,-50.02 450.02,50.02
3D body: height 460, standoff -120, extent 390,-10 410,10
3D body: height 100, standoff 0, extent 249.98,-50.02 350.02,50.02
3D body: height 460, standoff -120, extent 290,-10 310,10
3D body: height 100, standoff 0, extent 149.98,-50.02 250.02,50.02
3D body: height 460, standoff -120, extent 190,-10 210,10
3D body: height 100, standoff 0, extent 49.98,-50.02 150.02,50.02
3D body: height 460, standoff -120, extent 90,-10 110,10
3D body: height 100, standoff 0, extent -50.02,-50.02 50.02,50.02
3D body: height 460, standoff -120, extent -10,-10 10,10
3D body: height 100, standoff 0, extent 1049.98,-50.02 1150.02,50.02
3D body: height 100, standoff 0, extent 1049.98,49.98 1150.02,150.02
3D body: height 100, standoff 0, extent 1049.98,149.98 1150.02,250.02

## MALE 13x2 [mil]
pads (26):
  oct 60x85 hole 35: 1(0,0) 2(100,0) 3(200,0) 4(300,0) 5(400,0) 6(500,0) 7(600,0) 8(700,0) 9(800,0) 10(900,0) 11(1000,0) 12(1100,0) 13(1200,0) 14(0,100) 15(100,100) 16(200,100) 17(300,100) 18(400,100) 19(500,100) 20(600,100) 21(700,100) 22(800,100) 23(900,100) 24(1000,100) 25(1100,100) 26(1200,100)
Top Overlay:
  drawing of 262 lines, arcs and shapes, not listed
3D body: height 100, standoff 0, extent 849.98,49.98 950.02,150.02
3D body: height 460, standoff -120, extent 890,90 910,110
3D body: height 100, standoff 0, extent 749.98,49.98 850.02,150.02
3D body: height 460, standoff -120, extent 790,90 810,110
3D body: height 100, standoff 0, extent 649.98,49.98 750.02,150.02
3D body: height 460, standoff -120, extent 690,90 710,110
3D body: height 100, standoff 0, extent 549.98,49.98 650.02,150.02
3D body: height 460, standoff -120, extent 590,90 610,110
3D body: height 100, standoff 0, extent 449.98,49.98 550.02,150.02
3D body: height 460, standoff -120, extent 490,90 510,110
3D body: height 100, standoff 0, extent 349.98,49.98 450.02,150.02
3D body: height 460, standoff -120, extent 390,90 410,110
3D body: height 100, standoff 0, extent 249.98,49.98 350.02,150.02
3D body: height 460, standoff -120, extent 290,90 310,110
3D body: height 100, standoff 0, extent 149.98,49.98 250.02,150.02
3D body: height 460, standoff -120, extent 190,90 210,110
3D body: height 100, standoff 0, extent 49.98,49.98 150.02,150.02
3D body: height 460, standoff -120, extent 90,90 110,110
3D body: height 100, standoff 0, extent -50.02,49.98 50.02,150.02
3D body: height 460, standoff -120, extent -10,90 10,110
3D body: height 100, standoff 0, extent 849.98,-50.02 950.02,50.02
3D body: height 460, standoff -120, extent 890,-10 910,10
3D body: height 100, standoff 0, extent 749.98,-50.02 850.02,50.02
3D body: height 460, standoff -120, extent 790,-10 810,10
3D body: height 100, standoff 0, extent 649.98,-50.02 750.02,50.02
3D body: height 460, standoff -120, extent 690,-10 710,10
3D body: height 100, standoff 0, extent 549.98,-50.02 650.02,50.02
3D body: height 460, standoff -120, extent 590,-10 610,10
3D body: height 100, standoff 0, extent 449.98,-50.02 550.02,50.02
3D body: height 460, standoff -120, extent 490,-10 510,10
3D body: height 100, standoff 0, extent 349.98,-50.02 450.02,50.02
3D body: height 460, standoff -120, extent 390,-10 410,10
3D body: height 100, standoff 0, extent 249.98,-50.02 350.02,50.02
3D body: height 460, standoff -120, extent 290,-10 310,10
3D body: height 100, standoff 0, extent 149.98,-50.02 250.02,50.02
3D body: height 460, standoff -120, extent 190,-10 210,10
3D body: height 100, standoff 0, extent 49.98,-50.02 150.02,50.02
3D body: height 460, standoff -120, extent 90,-10 110,10
3D body: height 100, standoff 0, extent -50.02,-50.02 50.02,50.02
3D body: height 460, standoff -120, extent -10,-10 10,10
3D body: height 460, standoff -120, extent 990,-10 1010,10
3D body: height 100, standoff 0, extent 949.98,-50.02 1050.02,50.02
3D body: height 460, standoff -120, extent 1090,-10 1110,10
3D body: height 100, standoff 0, extent 1049.98,-50.02 1150.02,50.02
3D body: height 460, standoff -120, extent 1190,-10 1210,10
3D body: height 100, standoff 0, extent 1149.98,-50.02 1250.02,50.02
3D body: height 460, standoff -120, extent 990,90 1010,110
3D body: height 100, standoff 0, extent 949.98,49.98 1050.02,150.02
3D body: height 460, standoff -120, extent 1090,90 1110,110
3D body: height 100, standoff 0, extent 1049.98,49.98 1150.02,150.02
3D body: height 460, standoff -120, extent 1190,90 1210,110
3D body: height 100, standoff 0, extent 1149.98,49.98 1250.02,150.02